# Altium footprint library Footprint_library.PcbLib: 95 footprints (part 4 of 6)
Each footprint in its own frame and in the unit in brackets; x right, y up, seen from the top. Pads: shape width x height; smd on the part's side, far side on the other; paste and mask are expansions set on the pad; w line width, h text height; cw(c..) or ccw(c..) is an arc to the next point about the centre after c.
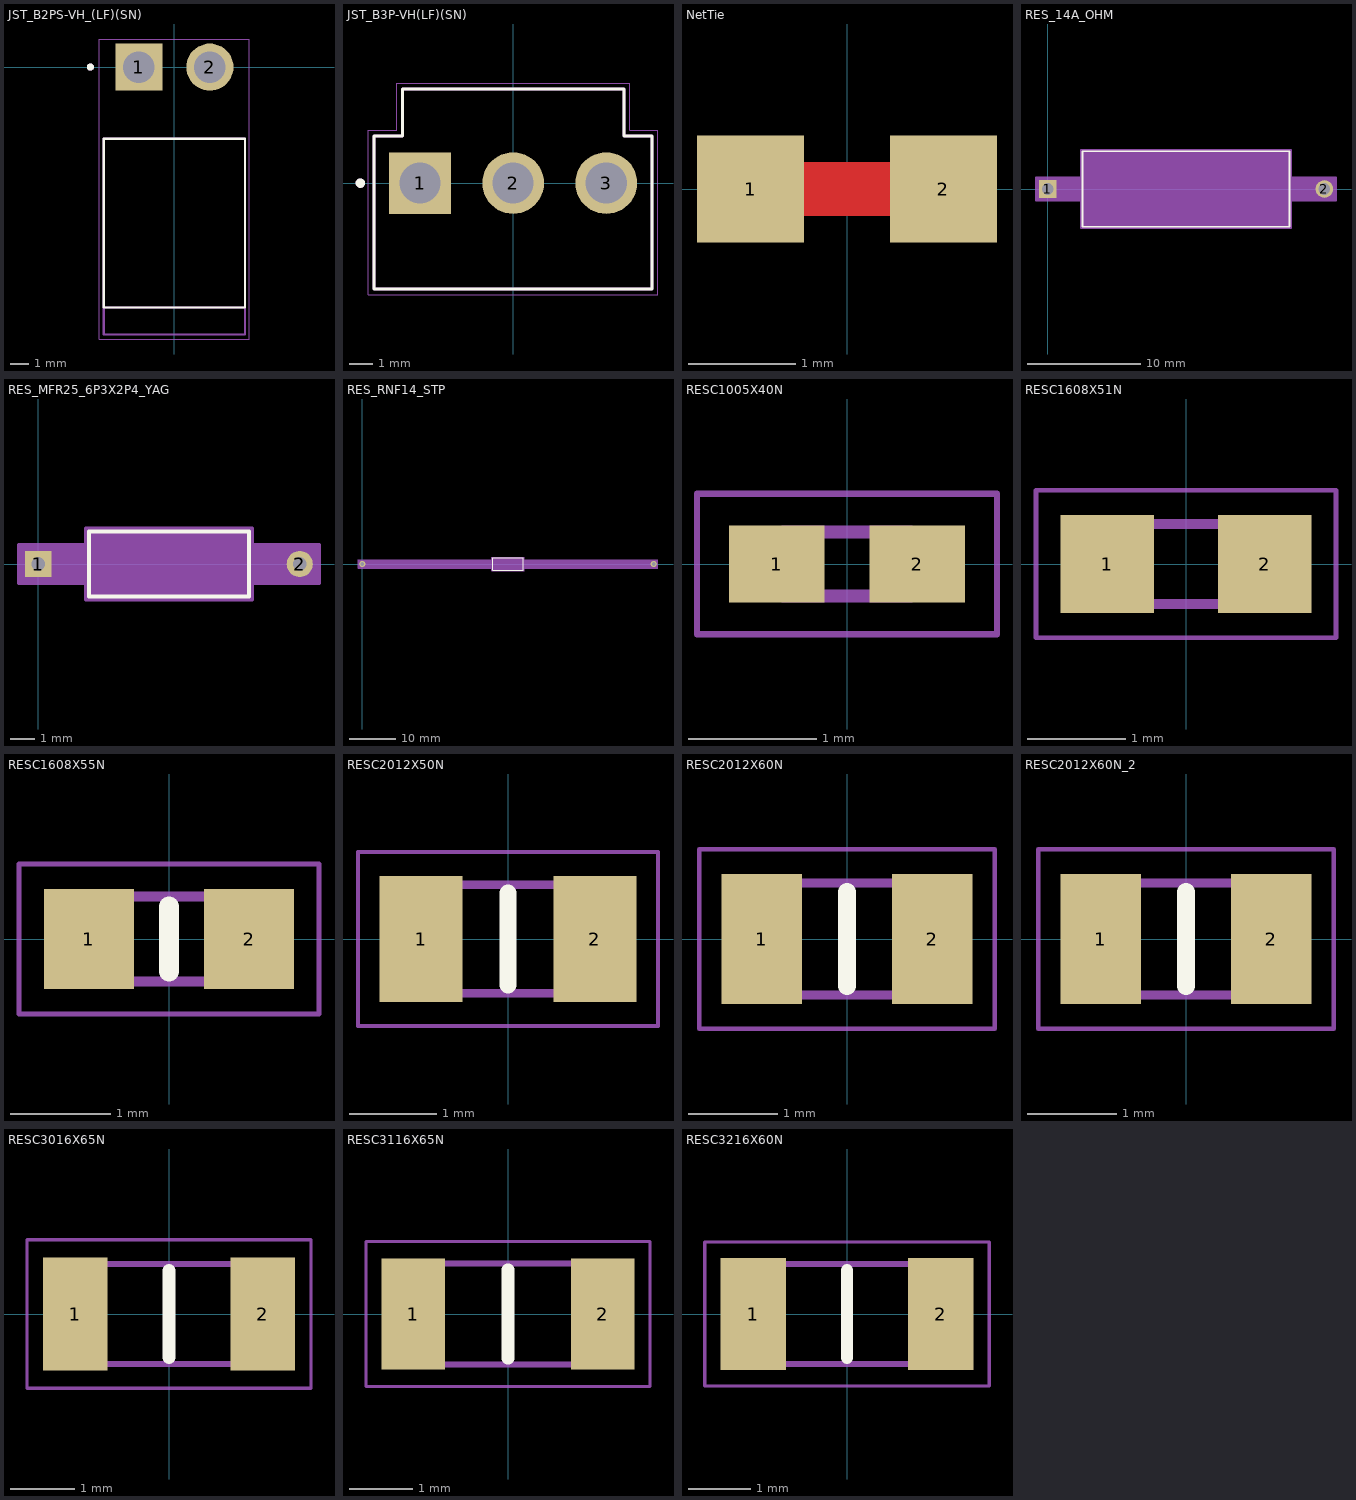
[diagram p3: the footprints below, top view; thin cyan lines are the x and y axes]

## JST_B2PS-VH_(LF)(SN) [mm]
height 8.5
pads (2):
  rect 2.625x2.625 / inner round 2.625 / far side rect 2.625x2.625 hole 1.75: 1(-1.98,0)
  round 2.625 hole 1.75: 2(1.98,0)
Top Overlay:
  circle w0.2: c-4.68,0 r0.1
  lines w0.127: -3.93,-13.4 3.93,-13.4 3.93,-4 -3.93,-4 -3.93,-13.4
Mechanical 13:
  circle w0.2: c-4.68,0 r0.1
  lines w0.127: -3.93,-13.4 -3.93,-14.9 3.93,-14.9 3.93,-13.4 ; -3.93,-13.4 3.93,-13.4 ; -3.93,-13.4 -3.93,-4 3.93,-4 3.93,-13.4
Mechanical 15:
  lines w0.05: -4.18,-15.15 4.18,-15.15 4.18,1.562 -4.18,1.562 -4.18,-15.15
3D body "step_temp.STEP": height 8.5, standoff -3.6, extent -3.93,-14.9 3.93,0.57

## JST_B3P-VH(LF)(SN) [mm]
height 10.9
pads (3):
  rect 2.625x2.625 / inner round 2.625 / far side rect 2.625x2.625 hole 1.75: 1(-3.96,0)
  round 2.625 hole 1.75: 2(0,0) 3(3.96,0)
Top Overlay:
  circle w0.2: c-6.5,0 r0.1
  lines w0.127: -5.91,-4.5 -5.91,2 -4.71,2 -4.71,4 4.71,4 4.71,2 5.91,2 5.91,-4.5 -5.91,-4.5
Mechanical 13:
  circle w0.2: c-6.5,0 r0.1
  lines w0.127: -5.91,-4.5 -5.91,2 -4.71,2 -4.71,4 4.71,4 4.71,2 5.91,2 5.91,-4.5 -5.91,-4.5
Mechanical 15:
  lines w0.05: -6.16,-4.75 6.16,-4.75 6.16,2.25 4.96,2.25 4.96,4.25 -4.96,4.25 -4.96,2.25 -6.16,2.25 -6.16,-4.75
3D body "step_temp.STEP": height 10.9, standoff -3.7, extent -5.91,-4.5 5.91,4

## NetTie [mm]
pads (2):
  rect 1x1 smd mask-10: 1(-0.9,0) 2(0.9,0)
Top Layer:
  rectangle: -0.75,-0.25 0.75,0.25

## PCBComponent_1 [mm]

## RES_14A_OHM [mil]
pads (2):
  rect 61x61 hole 41 paste-99999 mask+0: 1(0,0)
  round 61 hole 41 paste-99999 mask+0: 2(960,0)
Top Overlay:
  lines w6: 120.5,-131 120.5,131 839.5,131 839.5,-131 120.5,-131
  text ".Designator" at 342.5,-25 h50
Mechanical 13:
  lines w1: 0,0 125.5,0 ; 834.5,0 960,0 ; 125.5,-126 125.5,126 834.5,126 834.5,-126 125.5,-126
  text ".Designator" at 342.5,-25 h50
Mechanical 15:
  region: 115.5,-40.5 -40.5,-40.5 -40.5,40.5 115.5,40.5 115.5,136 844.5,136 844.5,40.5 1000.5,40.5 1000.5,-40.5 844.5,-40.5 844.5,-136 115.5,-136
  lines w6: -40.5,-40.5 115.5,-40.5 115.5,-136 844.5,-136 844.5,-40.5 1000.5,-40.5 1000.5,40.5 844.5,40.5 844.5,136 115.5,136 115.5,40.5 -40.5,40.5 -40.5,-40.5
3D body "RES_14A_OHM.step": height 251.98, standoff -110, extent -15.51,-126 975.51,126

## RES_MFR25_6P3X2P4_YAG [mil]
pads (2):
  rect 42x42 hole 22 paste-99999 mask+0: 1(0,0)
  round 42 hole 22 paste-99999 mask+0: 2(421.26,0)
Top Overlay:
  lines w6: 81.63,-52.5 339.63,-52.5 339.63,52.5 81.63,52.5 81.63,-52.5
  text ".Designator" at 73.13,-25 h50
Mechanical 13:
  lines w1: 0,0 86.63,0 ; 334.63,0 421.26,0 ; 86.63,-47.5 334.63,-47.5 334.63,47.5 86.63,47.5 86.63,-47.5
  text ".Designator" at 73.13,-25 h50
Mechanical 15:
  region: 76.63,-31 -31,-31 -31,31 76.63,31 76.63,57.5 344.63,57.5 344.63,31 452.26,31 452.26,-31 344.63,-31 344.63,-57.5 76.63,-57.5
  lines w6: -31,-31 -31,31 76.63,31 76.63,57.5 344.63,57.5 344.63,31 452.26,31 452.26,-31 344.63,-31 344.63,-57.5 76.63,-57.5 76.63,-31 -31,-31
3D body "RES_MFR25_6P3X2P4_YAG.step": height 94.98, standoff -100, extent -5.98,-47.15 427.24,47.15

## RES_RNF14_STP [mil]
pads (2):
  round 52 hole 32 paste-99999 mask+0: 1(0,0) 2(2454,0)
Top Overlay:
  lines w6: 1097,-51.5 1357,-51.5 1357,51.5 1097,51.5 1097,-51.5
  text ".Designator" at 1089.5,-25 h50
Mechanical 13:
  lines w1: 0,0 1102,0 ; 1352,0 2454,0 ; 1102,-46.5 1352,-46.5 1352,46.5 1102,46.5 1102,-46.5
  text ".Designator" at 1089.5,-25 h50
Mechanical 15:
  region: 1092,-36 -36,-36 -36,36 1092,36 1092,56.5 1362,56.5 1362,36 2490,36 2490,-36 1362,-36 1362,-56.5 1092,-56.5
  region: 1352,-46.5 1102,-46.5 1102,46.5 1352,46.5
  lines w6: -36,-36 -36,36 1092,36 1092,56.5 1362,56.5 1362,36 2490,36 2490,-36 1362,-36 1362,-56.5 1092,-56.5 1092,-36 -36,-36
3D body "RES_RNF14_STP.step": height 93, standoff -100, extent -10.98,-46.16 2465,46.16

## RESC1005X40N [mm]
pads (2):
  rect 0.75x0.6 smd: 1(-0.55,0) 2(0.55,0)
Mechanical 13:
  lines w0.1: -0.5,-0.25 0.5,-0.25 0.5,0.25 -0.5,0.25 -0.5,-0.25
Mechanical 15:
  lines w0.05: -1.175,-0.55 1.175,-0.55 1.175,0.55 -1.175,0.55 -1.175,-0.55
3D body "CRCW04026M65FKED.stp": height 0.35, standoff 0, extent -0.5,-0.25 0.5,0.25

## RESC1608X51N [mm]
pads (2):
  rect 0.95x1 smd: 1(-0.8,0) 2(0.8,0)
Mechanical 13:
  lines w0.1: -0.813,-0.406 0.813,-0.406 0.813,0.406 -0.813,0.406 -0.813,-0.406
Mechanical 15:
  lines w0.05: -1.525,-0.75 1.525,-0.75 1.525,0.75 -1.525,0.75 -1.525,-0.75
3D body "PTN0603E3612BST1.stp": height 0.51, standoff 0, extent -0.813,-0.406 0.813,0.406

## RESC1608X55N [mm]
pads (2):
  rect 0.9x1 smd: 1(-0.8,0) 2(0.8,0)
Top Overlay:
  lines w0.2: 0,-0.325 0,0.325
Mechanical 13:
  lines w0.1: -0.8,-0.425 -0.8,0.425 0.8,0.425 0.8,-0.425 -0.8,-0.425
Mechanical 15:
  lines w0.05: -1.5,-0.75 -1.5,0.75 1.5,0.75 1.5,-0.75 -1.5,-0.75
3D body "ERJ-3EKF1001V.stp": height 0.45, standoff 0, extent -0.8,-0.4 0.8,0.4

## RESC2012X50N [mm]
pads (2):
  rect 0.95x1.45 smd: 1(-1,0) 2(1,0)
Top Overlay:
  lines w0.2: 0,-0.525 0,0.525
Mechanical 13:
  lines w0.1: -1.025,-0.625 1.025,-0.625 1.025,0.625 -1.025,0.625 -1.025,-0.625
Mechanical 15:
  lines w0.05: -1.725,-1 1.725,-1 1.725,1 -1.725,1 -1.725,-1
3D body "CRCW08052K49FKEAC.stp": height 0.5, standoff 0, extent -1.025,-0.625 1.025,0.625

## RESC2012X60N [mm]
pads (2):
  rect 0.9x1.45 smd: 1(-0.95,0) 2(0.95,0)
Top Overlay:
  lines w0.2: 0,-0.525 0,0.525
Mechanical 13:
  lines w0.1: -1,-0.625 1,-0.625 1,0.625 -1,0.625 -1,-0.625
Mechanical 15:
  lines w0.05: -1.65,-1 1.65,-1 1.65,1 -1.65,1 -1.65,-1
3D body "CRCW08054K70FKEAC.stp": height 0.6, standoff 0, extent -1,-0.625 1,0.625

## RESC2012X60N_2 [mm]
pads (2):
  rect 0.9x1.45 smd: 1(-0.95,0) 2(0.95,0)
Top Overlay:
  lines w0.2: 0,-0.525 0,0.525
Mechanical 13:
  lines w0.1: -1,-0.625 -1,0.625 1,0.625 1,-0.625 -1,-0.625
Mechanical 15:
  lines w0.05: -1.65,-1 -1.65,1 1.65,1 1.65,-1 -1.65,-1
3D body "CRCW08054K70FKEAC.stp": height 0.6, standoff 0, extent -1,-0.625 1,0.625

## RESC3016X65N [mm]
pads (2):
  rect 1x1.75 smd: 1(-1.45,0) 2(1.45,0)
Top Overlay:
  lines w0.2: 0,-0.675 0,0.675
Mechanical 13:
  lines w0.1: -1.525,-0.775 -1.525,0.775 1.525,0.775 1.525,-0.775 -1.525,-0.775
Mechanical 15:
  lines w0.05: -2.2,-1.15 -2.2,1.15 2.2,1.15 2.2,-1.15 -2.2,-1.15
3D body "RNCF1206TKY49R9.stp": height 0.55, standoff 0, extent -1.524,-0.776 1.526,0.774

## RESC3116X65N [mm]
pads (2):
  rect 1x1.75 smd: 1(-1.5,0) 2(1.5,0)
Top Overlay:
  lines w0.2: 0,-0.7 0,0.7
Mechanical 13:
  lines w0.1: -1.55,-0.8 1.55,-0.8 1.55,0.8 -1.55,0.8 -1.55,-0.8
Mechanical 15:
  lines w0.05: -2.25,-1.15 2.25,-1.15 2.25,1.15 -2.25,1.15 -2.25,-1.15
3D body "RC1206FR-076M65L.stp": height 0.65, standoff 0, extent -1.55,-0.8 1.55,0.8

## RESC3216X60N [mm]
pads (2):
  rect 1.05x1.8 smd: 1(-1.5,0) 2(1.5,0)
Top Overlay:
  lines w0.2: 0,-0.7 0,0.7
Mechanical 13:
  lines w0.1: -1.575,-0.8 -1.575,0.8 1.575,0.8 1.575,-0.8 -1.575,-0.8
Mechanical 15:
  lines w0.05: -2.275,-1.15 -2.275,1.15 2.275,1.15 2.275,-1.15 -2.275,-1.15
3D body "CRCW1206287KFKEA.stp": height 0.55, standoff 0, extent -1.42,-0.74 1.78,0.86